# Altium integrated library Renesas Diode.IntLib: 1609 symbols (part 20 of 31)
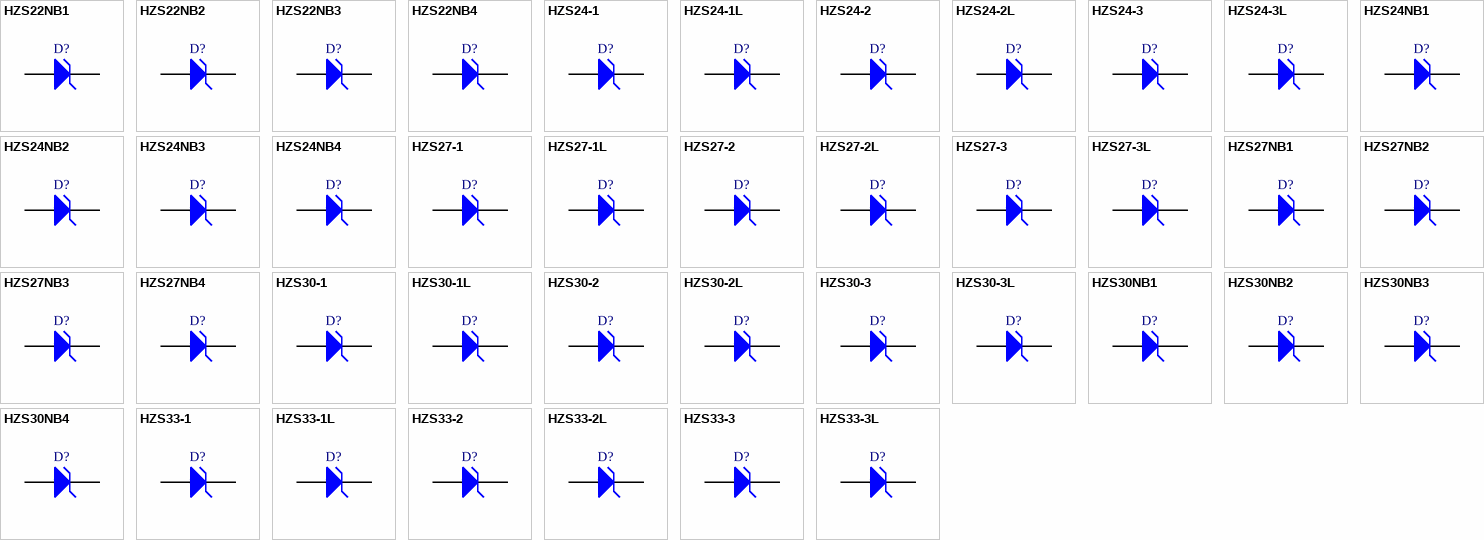
[diagram p64: symbols HZS22NB1 to HZS33-3L]

## HZS24-1L
designator D?
Silicon Epitaxial Planar Zener Diode for Low Noise Application; Published: 12-Feb-2010; DatasheetVersion: Rev.3.00, Nov-2007; PackageVersion: Jul-2006; PackageReference: GRZZ0002ZC-A; Publisher: Altium Limited; PackageDescription: Diode, Axial; Body 2.4 x 2.0 mm (LxDia.), Lead Dia. 0.4 mm (nom); ComponentLink1Description: Manufacturer Link; ComponentLink1URL: http://sg.renesas.com/fmwk.jsp?cnt=diode_landing.jsp&fp=/products/discrete/diodes/; ComponentLink2Description: Datasheet; ComponentLink2URL: http://documentation.renesas.com/eng/products/diode/rej03g0166_hzs_l.pdf; ComponentLink3Description: Packaging Specification; ComponentLink3URL: http://sg.renesas.com/media/products/common_info/package/pdf/diode/code/grzz0002zc_a.pdf
footprint GRZZ0002ZC-A (Diode, Axial; Body 2.4 x 2.2 mm (LxDia. max), Lead Dia. 0.4 mm (nom))
signal-integrity model HZS24-1L
pins: 1 K, 2 A

## HZS24-2
designator D?
Silicon Epitaxial Planar Zener Diode for Stabilized Power Supply; Published: 12-Feb-2010; DatasheetVersion: Rev.5.00, Oct-2007; PackageVersion: Jul-2006; PackageReference: GRZZ0002ZC-A; Publisher: Altium Limited; PackageDescription: Diode, Axial; Body 2.4 x 2.0 mm (LxDia.), Lead Dia. 0.4 mm (nom); ComponentLink1Description: Manufacturer Link; ComponentLink1URL: http://sg.renesas.com/fmwk.jsp?cnt=diode_landing.jsp&fp=/products/discrete/diodes/; ComponentLink2Description: Datasheet; ComponentLink2URL: http://documentation.renesas.com/eng/products/diode/rej03g0184_hzs.pdf; ComponentLink3Description: Packaging Specification; ComponentLink3URL: http://sg.renesas.com/media/products/common_info/package/pdf/diode/code/grzz0002zc_a.pdf
footprint GRZZ0002ZC-A (Diode, Axial; Body 2.4 x 2.2 mm (LxDia. max), Lead Dia. 0.4 mm (nom))
signal-integrity model HZS24-2
pins: 1 K, 2 A

## HZS24-2L
designator D?
Silicon Epitaxial Planar Zener Diode for Low Noise Application; Published: 12-Feb-2010; DatasheetVersion: Rev.3.00, Nov-2007; PackageVersion: Jul-2006; PackageReference: GRZZ0002ZC-A; Publisher: Altium Limited; PackageDescription: Diode, Axial; Body 2.4 x 2.0 mm (LxDia.), Lead Dia. 0.4 mm (nom); ComponentLink1Description: Manufacturer Link; ComponentLink1URL: http://sg.renesas.com/fmwk.jsp?cnt=diode_landing.jsp&fp=/products/discrete/diodes/; ComponentLink2Description: Datasheet; ComponentLink2URL: http://documentation.renesas.com/eng/products/diode/rej03g0166_hzs_l.pdf; ComponentLink3Description: Packaging Specification; ComponentLink3URL: http://sg.renesas.com/media/products/common_info/package/pdf/diode/code/grzz0002zc_a.pdf
footprint GRZZ0002ZC-A (Diode, Axial; Body 2.4 x 2.2 mm (LxDia. max), Lead Dia. 0.4 mm (nom))
signal-integrity model HZS24-2L
pins: 1 K, 2 A

## HZS24-3
designator D?
Silicon Epitaxial Planar Zener Diode for Stabilized Power Supply; Published: 12-Feb-2010; DatasheetVersion: Rev.5.00, Oct-2007; PackageVersion: Jul-2006; PackageReference: GRZZ0002ZC-A; Publisher: Altium Limited; PackageDescription: Diode, Axial; Body 2.4 x 2.0 mm (LxDia.), Lead Dia. 0.4 mm (nom); ComponentLink1Description: Manufacturer Link; ComponentLink1URL: http://sg.renesas.com/fmwk.jsp?cnt=diode_landing.jsp&fp=/products/discrete/diodes/; ComponentLink2Description: Datasheet; ComponentLink2URL: http://documentation.renesas.com/eng/products/diode/rej03g0184_hzs.pdf; ComponentLink3Description: Packaging Specification; ComponentLink3URL: http://sg.renesas.com/media/products/common_info/package/pdf/diode/code/grzz0002zc_a.pdf
footprint GRZZ0002ZC-A (Diode, Axial; Body 2.4 x 2.2 mm (LxDia. max), Lead Dia. 0.4 mm (nom))
signal-integrity model HZS24-3
pins: 1 K, 2 A

## HZS24-3L
designator D?
Silicon Epitaxial Planar Zener Diode for Low Noise Application; Published: 12-Feb-2010; DatasheetVersion: Rev.3.00, Nov-2007; PackageVersion: Jul-2006; PackageReference: GRZZ0002ZC-A; Publisher: Altium Limited; PackageDescription: Diode, Axial; Body 2.4 x 2.0 mm (LxDia.), Lead Dia. 0.4 mm (nom); ComponentLink1Description: Manufacturer Link; ComponentLink1URL: http://sg.renesas.com/fmwk.jsp?cnt=diode_landing.jsp&fp=/products/discrete/diodes/; ComponentLink2Description: Datasheet; ComponentLink2URL: http://documentation.renesas.com/eng/products/diode/rej03g0166_hzs_l.pdf; ComponentLink3Description: Packaging Specification; ComponentLink3URL: http://sg.renesas.com/media/products/common_info/package/pdf/diode/code/grzz0002zc_a.pdf
footprint GRZZ0002ZC-A (Diode, Axial; Body 2.4 x 2.2 mm (LxDia. max), Lead Dia. 0.4 mm (nom))
signal-integrity model HZS24-3L
pins: 1 K, 2 A

## HZS24NB1
designator D?
Silicon Epitaxial Planar Zener Diodes for Stabilized Power Supply; Published: 12-Feb-2010; DatasheetVersion: Rev.3.00, Nov-2007; PackageVersion: Jul-2006; PackageReference: GRZZ0002ZC-A; Publisher: Altium Limited; PackageDescription: Diode, Axial; Body 2.4 x 2.0 mm (LxDia.), Lead Dia. 0.4 mm (nom); ComponentLink1Description: Manufacturer Link; ComponentLink1URL: http://sg.renesas.com/fmwk.jsp?cnt=diode_landing.jsp&fp=/products/discrete/diodes/; ComponentLink2Description: Datasheet; ComponentLink2URL: http://documentation.renesas.com/eng/products/diode/rej03g0185_hzs_n.pdf; ComponentLink3Description: Packaging Specification; ComponentLink3URL: http://sg.renesas.com/media/products/common_info/package/pdf/diode/code/grzz0002zc_a.pdf
footprint GRZZ0002ZC-A (Diode, Axial; Body 2.4 x 2.2 mm (LxDia. max), Lead Dia. 0.4 mm (nom))
signal-integrity model HZS24NB1
pins: 1 K, 2 A

## HZS24NB2
designator D?
Silicon Epitaxial Planar Zener Diodes for Stabilized Power Supply; Published: 12-Feb-2010; DatasheetVersion: Rev.3.00, Nov-2007; PackageVersion: Jul-2006; PackageReference: GRZZ0002ZC-A; Publisher: Altium Limited; PackageDescription: Diode, Axial; Body 2.4 x 2.0 mm (LxDia.), Lead Dia. 0.4 mm (nom); ComponentLink1Description: Manufacturer Link; ComponentLink1URL: http://sg.renesas.com/fmwk.jsp?cnt=diode_landing.jsp&fp=/products/discrete/diodes/; ComponentLink2Description: Datasheet; ComponentLink2URL: http://documentation.renesas.com/eng/products/diode/rej03g0185_hzs_n.pdf; ComponentLink3Description: Packaging Specification; ComponentLink3URL: http://sg.renesas.com/media/products/common_info/package/pdf/diode/code/grzz0002zc_a.pdf
footprint GRZZ0002ZC-A (Diode, Axial; Body 2.4 x 2.2 mm (LxDia. max), Lead Dia. 0.4 mm (nom))
signal-integrity model HZS24NB2
pins: 1 K, 2 A

## HZS24NB3
designator D?
Silicon Epitaxial Planar Zener Diodes for Stabilized Power Supply; Published: 12-Feb-2010; DatasheetVersion: Rev.3.00, Nov-2007; PackageVersion: Jul-2006; PackageReference: GRZZ0002ZC-A; Publisher: Altium Limited; PackageDescription: Diode, Axial; Body 2.4 x 2.0 mm (LxDia.), Lead Dia. 0.4 mm (nom); ComponentLink1Description: Manufacturer Link; ComponentLink1URL: http://sg.renesas.com/fmwk.jsp?cnt=diode_landing.jsp&fp=/products/discrete/diodes/; ComponentLink2Description: Datasheet; ComponentLink2URL: http://documentation.renesas.com/eng/products/diode/rej03g0185_hzs_n.pdf; ComponentLink3Description: Packaging Specification; ComponentLink3URL: http://sg.renesas.com/media/products/common_info/package/pdf/diode/code/grzz0002zc_a.pdf
footprint GRZZ0002ZC-A (Diode, Axial; Body 2.4 x 2.2 mm (LxDia. max), Lead Dia. 0.4 mm (nom))
signal-integrity model HZS24NB3
pins: 1 K, 2 A

## HZS24NB4
designator D?
Silicon Epitaxial Planar Zener Diodes for Stabilized Power Supply; Published: 12-Feb-2010; DatasheetVersion: Rev.3.00, Nov-2007; PackageVersion: Jul-2006; PackageReference: GRZZ0002ZC-A; Publisher: Altium Limited; PackageDescription: Diode, Axial; Body 2.4 x 2.0 mm (LxDia.), Lead Dia. 0.4 mm (nom); ComponentLink1Description: Manufacturer Link; ComponentLink1URL: http://sg.renesas.com/fmwk.jsp?cnt=diode_landing.jsp&fp=/products/discrete/diodes/; ComponentLink2Description: Datasheet; ComponentLink2URL: http://documentation.renesas.com/eng/products/diode/rej03g0185_hzs_n.pdf; ComponentLink3Description: Packaging Specification; ComponentLink3URL: http://sg.renesas.com/media/products/common_info/package/pdf/diode/code/grzz0002zc_a.pdf
footprint GRZZ0002ZC-A (Diode, Axial; Body 2.4 x 2.2 mm (LxDia. max), Lead Dia. 0.4 mm (nom))
signal-integrity model HZS24NB4
pins: 1 K, 2 A

## HZS27-1
designator D?
Silicon Epitaxial Planar Zener Diode for Stabilized Power Supply; Published: 12-Feb-2010; DatasheetVersion: Rev.5.00, Oct-2007; PackageVersion: Jul-2006; PackageReference: GRZZ0002ZC-A; Publisher: Altium Limited; PackageDescription: Diode, Axial; Body 2.4 x 2.0 mm (LxDia.), Lead Dia. 0.4 mm (nom); ComponentLink1Description: Manufacturer Link; ComponentLink1URL: http://sg.renesas.com/fmwk.jsp?cnt=diode_landing.jsp&fp=/products/discrete/diodes/; ComponentLink2Description: Datasheet; ComponentLink2URL: http://documentation.renesas.com/eng/products/diode/rej03g0184_hzs.pdf; ComponentLink3Description: Packaging Specification; ComponentLink3URL: http://sg.renesas.com/media/products/common_info/package/pdf/diode/code/grzz0002zc_a.pdf
footprint GRZZ0002ZC-A (Diode, Axial; Body 2.4 x 2.2 mm (LxDia. max), Lead Dia. 0.4 mm (nom))
signal-integrity model HZS27-1
pins: 1 K, 2 A

## HZS27-1L
designator D?
Silicon Epitaxial Planar Zener Diode for Low Noise Application; Published: 12-Feb-2010; DatasheetVersion: Rev.3.00, Nov-2007; PackageVersion: Jul-2006; PackageReference: GRZZ0002ZC-A; Publisher: Altium Limited; PackageDescription: Diode, Axial; Body 2.4 x 2.0 mm (LxDia.), Lead Dia. 0.4 mm (nom); ComponentLink1Description: Manufacturer Link; ComponentLink1URL: http://sg.renesas.com/fmwk.jsp?cnt=diode_landing.jsp&fp=/products/discrete/diodes/; ComponentLink2Description: Datasheet; ComponentLink2URL: http://documentation.renesas.com/eng/products/diode/rej03g0166_hzs_l.pdf; ComponentLink3Description: Packaging Specification; ComponentLink3URL: http://sg.renesas.com/media/products/common_info/package/pdf/diode/code/grzz0002zc_a.pdf
footprint GRZZ0002ZC-A (Diode, Axial; Body 2.4 x 2.2 mm (LxDia. max), Lead Dia. 0.4 mm (nom))
signal-integrity model HZS27-1L
pins: 1 K, 2 A

## HZS27-2
designator D?
Silicon Epitaxial Planar Zener Diode for Stabilized Power Supply; Published: 12-Feb-2010; DatasheetVersion: Rev.5.00, Oct-2007; PackageVersion: Jul-2006; PackageReference: GRZZ0002ZC-A; Publisher: Altium Limited; PackageDescription: Diode, Axial; Body 2.4 x 2.0 mm (LxDia.), Lead Dia. 0.4 mm (nom); ComponentLink1Description: Manufacturer Link; ComponentLink1URL: http://sg.renesas.com/fmwk.jsp?cnt=diode_landing.jsp&fp=/products/discrete/diodes/; ComponentLink2Description: Datasheet; ComponentLink2URL: http://documentation.renesas.com/eng/products/diode/rej03g0184_hzs.pdf; ComponentLink3Description: Packaging Specification; ComponentLink3URL: http://sg.renesas.com/media/products/common_info/package/pdf/diode/code/grzz0002zc_a.pdf
footprint GRZZ0002ZC-A (Diode, Axial; Body 2.4 x 2.2 mm (LxDia. max), Lead Dia. 0.4 mm (nom))
signal-integrity model HZS27-2
pins: 1 K, 2 A

## HZS27-2L
designator D?
Silicon Epitaxial Planar Zener Diode for Low Noise Application; Published: 12-Feb-2010; DatasheetVersion: Rev.3.00, Nov-2007; PackageVersion: Jul-2006; PackageReference: GRZZ0002ZC-A; Publisher: Altium Limited; PackageDescription: Diode, Axial; Body 2.4 x 2.0 mm (LxDia.), Lead Dia. 0.4 mm (nom); ComponentLink1Description: Manufacturer Link; ComponentLink1URL: http://sg.renesas.com/fmwk.jsp?cnt=diode_landing.jsp&fp=/products/discrete/diodes/; ComponentLink2Description: Datasheet; ComponentLink2URL: http://documentation.renesas.com/eng/products/diode/rej03g0166_hzs_l.pdf; ComponentLink3Description: Packaging Specification; ComponentLink3URL: http://sg.renesas.com/media/products/common_info/package/pdf/diode/code/grzz0002zc_a.pdf
footprint GRZZ0002ZC-A (Diode, Axial; Body 2.4 x 2.2 mm (LxDia. max), Lead Dia. 0.4 mm (nom))
signal-integrity model HZS27-2L
pins: 1 K, 2 A

## HZS27-3
designator D?
Silicon Epitaxial Planar Zener Diode for Stabilized Power Supply; Published: 12-Feb-2010; DatasheetVersion: Rev.5.00, Oct-2007; PackageVersion: Jul-2006; PackageReference: GRZZ0002ZC-A; Publisher: Altium Limited; PackageDescription: Diode, Axial; Body 2.4 x 2.0 mm (LxDia.), Lead Dia. 0.4 mm (nom); ComponentLink1Description: Manufacturer Link; ComponentLink1URL: http://sg.renesas.com/fmwk.jsp?cnt=diode_landing.jsp&fp=/products/discrete/diodes/; ComponentLink2Description: Datasheet; ComponentLink2URL: http://documentation.renesas.com/eng/products/diode/rej03g0184_hzs.pdf; ComponentLink3Description: Packaging Specification; ComponentLink3URL: http://sg.renesas.com/media/products/common_info/package/pdf/diode/code/grzz0002zc_a.pdf
footprint GRZZ0002ZC-A (Diode, Axial; Body 2.4 x 2.2 mm (LxDia. max), Lead Dia. 0.4 mm (nom))
signal-integrity model HZS27-3
pins: 1 K, 2 A

## HZS27-3L
designator D?
Silicon Epitaxial Planar Zener Diode for Low Noise Application; Published: 12-Feb-2010; DatasheetVersion: Rev.3.00, Nov-2007; PackageVersion: Jul-2006; PackageReference: GRZZ0002ZC-A; Publisher: Altium Limited; PackageDescription: Diode, Axial; Body 2.4 x 2.0 mm (LxDia.), Lead Dia. 0.4 mm (nom); ComponentLink1Description: Manufacturer Link; ComponentLink1URL: http://sg.renesas.com/fmwk.jsp?cnt=diode_landing.jsp&fp=/products/discrete/diodes/; ComponentLink2Description: Datasheet; ComponentLink2URL: http://documentation.renesas.com/eng/products/diode/rej03g0166_hzs_l.pdf; ComponentLink3Description: Packaging Specification; ComponentLink3URL: http://sg.renesas.com/media/products/common_info/package/pdf/diode/code/grzz0002zc_a.pdf
footprint GRZZ0002ZC-A (Diode, Axial; Body 2.4 x 2.2 mm (LxDia. max), Lead Dia. 0.4 mm (nom))
signal-integrity model HZS27-3L
pins: 1 K, 2 A

## HZS27NB1
designator D?
Silicon Epitaxial Planar Zener Diodes for Stabilized Power Supply; Published: 12-Feb-2010; DatasheetVersion: Rev.3.00, Nov-2007; PackageVersion: Jul-2006; PackageReference: GRZZ0002ZC-A; Publisher: Altium Limited; PackageDescription: Diode, Axial; Body 2.4 x 2.0 mm (LxDia.), Lead Dia. 0.4 mm (nom); ComponentLink1Description: Manufacturer Link; ComponentLink1URL: http://sg.renesas.com/fmwk.jsp?cnt=diode_landing.jsp&fp=/products/discrete/diodes/; ComponentLink2Description: Datasheet; ComponentLink2URL: http://documentation.renesas.com/eng/products/diode/rej03g0185_hzs_n.pdf; ComponentLink3Description: Packaging Specification; ComponentLink3URL: http://sg.renesas.com/media/products/common_info/package/pdf/diode/code/grzz0002zc_a.pdf
footprint GRZZ0002ZC-A (Diode, Axial; Body 2.4 x 2.2 mm (LxDia. max), Lead Dia. 0.4 mm (nom))
signal-integrity model HZS27NB1
pins: 1 K, 2 A

## HZS27NB2
designator D?
Silicon Epitaxial Planar Zener Diodes for Stabilized Power Supply; Published: 12-Feb-2010; DatasheetVersion: Rev.3.00, Nov-2007; PackageVersion: Jul-2006; PackageReference: GRZZ0002ZC-A; Publisher: Altium Limited; PackageDescription: Diode, Axial; Body 2.4 x 2.0 mm (LxDia.), Lead Dia. 0.4 mm (nom); ComponentLink1Description: Manufacturer Link; ComponentLink1URL: http://sg.renesas.com/fmwk.jsp?cnt=diode_landing.jsp&fp=/products/discrete/diodes/; ComponentLink2Description: Datasheet; ComponentLink2URL: http://documentation.renesas.com/eng/products/diode/rej03g0185_hzs_n.pdf; ComponentLink3Description: Packaging Specification; ComponentLink3URL: http://sg.renesas.com/media/products/common_info/package/pdf/diode/code/grzz0002zc_a.pdf
footprint GRZZ0002ZC-A (Diode, Axial; Body 2.4 x 2.2 mm (LxDia. max), Lead Dia. 0.4 mm (nom))
signal-integrity model HZS27NB2
pins: 1 K, 2 A

## HZS27NB3
designator D?
Silicon Epitaxial Planar Zener Diodes for Stabilized Power Supply; Published: 12-Feb-2010; DatasheetVersion: Rev.3.00, Nov-2007; PackageVersion: Jul-2006; PackageReference: GRZZ0002ZC-A; Publisher: Altium Limited; PackageDescription: Diode, Axial; Body 2.4 x 2.0 mm (LxDia.), Lead Dia. 0.4 mm (nom); ComponentLink1Description: Manufacturer Link; ComponentLink1URL: http://sg.renesas.com/fmwk.jsp?cnt=diode_landing.jsp&fp=/products/discrete/diodes/; ComponentLink2Description: Datasheet; ComponentLink2URL: http://documentation.renesas.com/eng/products/diode/rej03g0185_hzs_n.pdf; ComponentLink3Description: Packaging Specification; ComponentLink3URL: http://sg.renesas.com/media/products/common_info/package/pdf/diode/code/grzz0002zc_a.pdf
footprint GRZZ0002ZC-A (Diode, Axial; Body 2.4 x 2.2 mm (LxDia. max), Lead Dia. 0.4 mm (nom))
signal-integrity model HZS27NB3
pins: 1 K, 2 A

## HZS27NB4
designator D?
Silicon Epitaxial Planar Zener Diodes for Stabilized Power Supply; Published: 12-Feb-2010; DatasheetVersion: Rev.3.00, Nov-2007; PackageVersion: Jul-2006; PackageReference: GRZZ0002ZC-A; Publisher: Altium Limited; PackageDescription: Diode, Axial; Body 2.4 x 2.0 mm (LxDia.), Lead Dia. 0.4 mm (nom); ComponentLink1Description: Manufacturer Link; ComponentLink1URL: http://sg.renesas.com/fmwk.jsp?cnt=diode_landing.jsp&fp=/products/discrete/diodes/; ComponentLink2Description: Datasheet; ComponentLink2URL: http://documentation.renesas.com/eng/products/diode/rej03g0185_hzs_n.pdf; ComponentLink3Description: Packaging Specification; ComponentLink3URL: http://sg.renesas.com/media/products/common_info/package/pdf/diode/code/grzz0002zc_a.pdf
footprint GRZZ0002ZC-A (Diode, Axial; Body 2.4 x 2.2 mm (LxDia. max), Lead Dia. 0.4 mm (nom))
signal-integrity model HZS27NB4
pins: 1 K, 2 A

## HZS30-1
designator D?
Silicon Epitaxial Planar Zener Diode for Stabilized Power Supply; Published: 12-Feb-2010; DatasheetVersion: Rev.5.00, Oct-2007; PackageVersion: Jul-2006; PackageReference: GRZZ0002ZC-A; Publisher: Altium Limited; PackageDescription: Diode, Axial; Body 2.4 x 2.0 mm (LxDia.), Lead Dia. 0.4 mm (nom); ComponentLink1Description: Manufacturer Link; ComponentLink1URL: http://sg.renesas.com/fmwk.jsp?cnt=diode_landing.jsp&fp=/products/discrete/diodes/; ComponentLink2Description: Datasheet; ComponentLink2URL: http://documentation.renesas.com/eng/products/diode/rej03g0184_hzs.pdf; ComponentLink3Description: Packaging Specification; ComponentLink3URL: http://sg.renesas.com/media/products/common_info/package/pdf/diode/code/grzz0002zc_a.pdf
footprint GRZZ0002ZC-A (Diode, Axial; Body 2.4 x 2.2 mm (LxDia. max), Lead Dia. 0.4 mm (nom))
signal-integrity model HZS30-1
pins: 1 K, 2 A

## HZS30-1L
designator D?
Silicon Epitaxial Planar Zener Diode for Low Noise Application; Published: 12-Feb-2010; DatasheetVersion: Rev.3.00, Nov-2007; PackageVersion: Jul-2006; PackageReference: GRZZ0002ZC-A; Publisher: Altium Limited; PackageDescription: Diode, Axial; Body 2.4 x 2.0 mm (LxDia.), Lead Dia. 0.4 mm (nom); ComponentLink1Description: Manufacturer Link; ComponentLink1URL: http://sg.renesas.com/fmwk.jsp?cnt=diode_landing.jsp&fp=/products/discrete/diodes/; ComponentLink2Description: Datasheet; ComponentLink2URL: http://documentation.renesas.com/eng/products/diode/rej03g0166_hzs_l.pdf; ComponentLink3Description: Packaging Specification; ComponentLink3URL: http://sg.renesas.com/media/products/common_info/package/pdf/diode/code/grzz0002zc_a.pdf
footprint GRZZ0002ZC-A (Diode, Axial; Body 2.4 x 2.2 mm (LxDia. max), Lead Dia. 0.4 mm (nom))
signal-integrity model HZS30-1L
pins: 1 K, 2 A

## HZS30-2
designator D?
Silicon Epitaxial Planar Zener Diode for Stabilized Power Supply; Published: 12-Feb-2010; DatasheetVersion: Rev.5.00, Oct-2007; PackageVersion: Jul-2006; PackageReference: GRZZ0002ZC-A; Publisher: Altium Limited; PackageDescription: Diode, Axial; Body 2.4 x 2.0 mm (LxDia.), Lead Dia. 0.4 mm (nom); ComponentLink1Description: Manufacturer Link; ComponentLink1URL: http://sg.renesas.com/fmwk.jsp?cnt=diode_landing.jsp&fp=/products/discrete/diodes/; ComponentLink2Description: Datasheet; ComponentLink2URL: http://documentation.renesas.com/eng/products/diode/rej03g0184_hzs.pdf; ComponentLink3Description: Packaging Specification; ComponentLink3URL: http://sg.renesas.com/media/products/common_info/package/pdf/diode/code/grzz0002zc_a.pdf
footprint GRZZ0002ZC-A (Diode, Axial; Body 2.4 x 2.2 mm (LxDia. max), Lead Dia. 0.4 mm (nom))
signal-integrity model HZS30-2
pins: 1 K, 2 A

## HZS30-2L
designator D?
Silicon Epitaxial Planar Zener Diode for Low Noise Application; Published: 12-Feb-2010; DatasheetVersion: Rev.3.00, Nov-2007; PackageVersion: Jul-2006; PackageReference: GRZZ0002ZC-A; Publisher: Altium Limited; PackageDescription: Diode, Axial; Body 2.4 x 2.0 mm (LxDia.), Lead Dia. 0.4 mm (nom); ComponentLink1Description: Manufacturer Link; ComponentLink1URL: http://sg.renesas.com/fmwk.jsp?cnt=diode_landing.jsp&fp=/products/discrete/diodes/; ComponentLink2Description: Datasheet; ComponentLink2URL: http://documentation.renesas.com/eng/products/diode/rej03g0166_hzs_l.pdf; ComponentLink3Description: Packaging Specification; ComponentLink3URL: http://sg.renesas.com/media/products/common_info/package/pdf/diode/code/grzz0002zc_a.pdf
footprint GRZZ0002ZC-A (Diode, Axial; Body 2.4 x 2.2 mm (LxDia. max), Lead Dia. 0.4 mm (nom))
signal-integrity model HZS30-2L
pins: 1 K, 2 A

## HZS30-3
designator D?
Silicon Epitaxial Planar Zener Diode for Stabilized Power Supply; Published: 12-Feb-2010; DatasheetVersion: Rev.5.00, Oct-2007; PackageVersion: Jul-2006; PackageReference: GRZZ0002ZC-A; Publisher: Altium Limited; PackageDescription: Diode, Axial; Body 2.4 x 2.0 mm (LxDia.), Lead Dia. 0.4 mm (nom); ComponentLink1Description: Manufacturer Link; ComponentLink1URL: http://sg.renesas.com/fmwk.jsp?cnt=diode_landing.jsp&fp=/products/discrete/diodes/; ComponentLink2Description: Datasheet; ComponentLink2URL: http://documentation.renesas.com/eng/products/diode/rej03g0184_hzs.pdf; ComponentLink3Description: Packaging Specification; ComponentLink3URL: http://sg.renesas.com/media/products/common_info/package/pdf/diode/code/grzz0002zc_a.pdf
footprint GRZZ0002ZC-A (Diode, Axial; Body 2.4 x 2.2 mm (LxDia. max), Lead Dia. 0.4 mm (nom))
signal-integrity model HZS30-3
pins: 1 K, 2 A

## HZS30-3L
designator D?
Silicon Epitaxial Planar Zener Diode for Low Noise Application; Published: 12-Feb-2010; DatasheetVersion: Rev.3.00, Nov-2007; PackageVersion: Jul-2006; PackageReference: GRZZ0002ZC-A; Publisher: Altium Limited; PackageDescription: Diode, Axial; Body 2.4 x 2.0 mm (LxDia.), Lead Dia. 0.4 mm (nom); ComponentLink1Description: Manufacturer Link; ComponentLink1URL: http://sg.renesas.com/fmwk.jsp?cnt=diode_landing.jsp&fp=/products/discrete/diodes/; ComponentLink2Description: Datasheet; ComponentLink2URL: http://documentation.renesas.com/eng/products/diode/rej03g0166_hzs_l.pdf; ComponentLink3Description: Packaging Specification; ComponentLink3URL: http://sg.renesas.com/media/products/common_info/package/pdf/diode/code/grzz0002zc_a.pdf
footprint GRZZ0002ZC-A (Diode, Axial; Body 2.4 x 2.2 mm (LxDia. max), Lead Dia. 0.4 mm (nom))
signal-integrity model HZS30-3L
pins: 1 K, 2 A

## HZS30NB1
designator D?
Silicon Epitaxial Planar Zener Diodes for Stabilized Power Supply; Published: 12-Feb-2010; DatasheetVersion: Rev.3.00, Nov-2007; PackageVersion: Jul-2006; PackageReference: GRZZ0002ZC-A; Publisher: Altium Limited; PackageDescription: Diode, Axial; Body 2.4 x 2.0 mm (LxDia.), Lead Dia. 0.4 mm (nom); ComponentLink1Description: Manufacturer Link; ComponentLink1URL: http://sg.renesas.com/fmwk.jsp?cnt=diode_landing.jsp&fp=/products/discrete/diodes/; ComponentLink2Description: Datasheet; ComponentLink2URL: http://documentation.renesas.com/eng/products/diode/rej03g0185_hzs_n.pdf; ComponentLink3Description: Packaging Specification; ComponentLink3URL: http://sg.renesas.com/media/products/common_info/package/pdf/diode/code/grzz0002zc_a.pdf
footprint GRZZ0002ZC-A (Diode, Axial; Body 2.4 x 2.2 mm (LxDia. max), Lead Dia. 0.4 mm (nom))
signal-integrity model HZS30NB1
pins: 1 K, 2 A

## HZS30NB2
designator D?
Silicon Epitaxial Planar Zener Diodes for Stabilized Power Supply; Published: 12-Feb-2010; DatasheetVersion: Rev.3.00, Nov-2007; PackageVersion: Jul-2006; PackageReference: GRZZ0002ZC-A; Publisher: Altium Limited; PackageDescription: Diode, Axial; Body 2.4 x 2.0 mm (LxDia.), Lead Dia. 0.4 mm (nom); ComponentLink1Description: Manufacturer Link; ComponentLink1URL: http://sg.renesas.com/fmwk.jsp?cnt=diode_landing.jsp&fp=/products/discrete/diodes/; ComponentLink2Description: Datasheet; ComponentLink2URL: http://documentation.renesas.com/eng/products/diode/rej03g0185_hzs_n.pdf; ComponentLink3Description: Packaging Specification; ComponentLink3URL: http://sg.renesas.com/media/products/common_info/package/pdf/diode/code/grzz0002zc_a.pdf
footprint GRZZ0002ZC-A (Diode, Axial; Body 2.4 x 2.2 mm (LxDia. max), Lead Dia. 0.4 mm (nom))
signal-integrity model HZS30NB2
pins: 1 K, 2 A

## HZS30NB3
designator D?
Silicon Epitaxial Planar Zener Diodes for Stabilized Power Supply; Published: 12-Feb-2010; DatasheetVersion: Rev.3.00, Nov-2007; PackageVersion: Jul-2006; PackageReference: GRZZ0002ZC-A; Publisher: Altium Limited; PackageDescription: Diode, Axial; Body 2.4 x 2.0 mm (LxDia.), Lead Dia. 0.4 mm (nom); ComponentLink1Description: Manufacturer Link; ComponentLink1URL: http://sg.renesas.com/fmwk.jsp?cnt=diode_landing.jsp&fp=/products/discrete/diodes/; ComponentLink2Description: Datasheet; ComponentLink2URL: http://documentation.renesas.com/eng/products/diode/rej03g0185_hzs_n.pdf; ComponentLink3Description: Packaging Specification; ComponentLink3URL: http://sg.renesas.com/media/products/common_info/package/pdf/diode/code/grzz0002zc_a.pdf
footprint GRZZ0002ZC-A (Diode, Axial; Body 2.4 x 2.2 mm (LxDia. max), Lead Dia. 0.4 mm (nom))
signal-integrity model HZS30NB3
pins: 1 K, 2 A

## HZS30NB4
designator D?
Silicon Epitaxial Planar Zener Diodes for Stabilized Power Supply; Published: 12-Feb-2010; DatasheetVersion: Rev.3.00, Nov-2007; PackageVersion: Jul-2006; PackageReference: GRZZ0002ZC-A; Publisher: Altium Limited; PackageDescription: Diode, Axial; Body 2.4 x 2.0 mm (LxDia.), Lead Dia. 0.4 mm (nom); ComponentLink1Description: Manufacturer Link; ComponentLink1URL: http://sg.renesas.com/fmwk.jsp?cnt=diode_landing.jsp&fp=/products/discrete/diodes/; ComponentLink2Description: Datasheet; ComponentLink2URL: http://documentation.renesas.com/eng/products/diode/rej03g0185_hzs_n.pdf; ComponentLink3Description: Packaging Specification; ComponentLink3URL: http://sg.renesas.com/media/products/common_info/package/pdf/diode/code/grzz0002zc_a.pdf
footprint GRZZ0002ZC-A (Diode, Axial; Body 2.4 x 2.2 mm (LxDia. max), Lead Dia. 0.4 mm (nom))
signal-integrity model HZS30NB4
pins: 1 K, 2 A

## HZS33-1
designator D?
Silicon Epitaxial Planar Zener Diode for Stabilized Power Supply; Published: 12-Feb-2010; DatasheetVersion: Rev.5.00, Oct-2007; PackageVersion: Jul-2006; PackageReference: GRZZ0002ZC-A; Publisher: Altium Limited; PackageDescription: Diode, Axial; Body 2.4 x 2.0 mm (LxDia.), Lead Dia. 0.4 mm (nom); ComponentLink1Description: Manufacturer Link; ComponentLink1URL: http://sg.renesas.com/fmwk.jsp?cnt=diode_landing.jsp&fp=/products/discrete/diodes/; ComponentLink2Description: Datasheet; ComponentLink2URL: http://documentation.renesas.com/eng/products/diode/rej03g0184_hzs.pdf; ComponentLink3Description: Packaging Specification; ComponentLink3URL: http://sg.renesas.com/media/products/common_info/package/pdf/diode/code/grzz0002zc_a.pdf
footprint GRZZ0002ZC-A (Diode, Axial; Body 2.4 x 2.2 mm (LxDia. max), Lead Dia. 0.4 mm (nom))
signal-integrity model HZS33-1
pins: 1 K, 2 A

## HZS33-1L
designator D?
Silicon Epitaxial Planar Zener Diode for Low Noise Application; Published: 12-Feb-2010; DatasheetVersion: Rev.3.00, Nov-2007; PackageVersion: Jul-2006; PackageReference: GRZZ0002ZC-A; Publisher: Altium Limited; PackageDescription: Diode, Axial; Body 2.4 x 2.0 mm (LxDia.), Lead Dia. 0.4 mm (nom); ComponentLink1Description: Manufacturer Link; ComponentLink1URL: http://sg.renesas.com/fmwk.jsp?cnt=diode_landing.jsp&fp=/products/discrete/diodes/; ComponentLink2Description: Datasheet; ComponentLink2URL: http://documentation.renesas.com/eng/products/diode/rej03g0166_hzs_l.pdf; ComponentLink3Description: Packaging Specification; ComponentLink3URL: http://sg.renesas.com/media/products/common_info/package/pdf/diode/code/grzz0002zc_a.pdf
footprint GRZZ0002ZC-A (Diode, Axial; Body 2.4 x 2.2 mm (LxDia. max), Lead Dia. 0.4 mm (nom))
signal-integrity model HZS33-1L
pins: 1 K, 2 A

## HZS33-2
designator D?
Silicon Epitaxial Planar Zener Diode for Stabilized Power Supply; Published: 12-Feb-2010; DatasheetVersion: Rev.5.00, Oct-2007; PackageVersion: Jul-2006; PackageReference: GRZZ0002ZC-A; Publisher: Altium Limited; PackageDescription: Diode, Axial; Body 2.4 x 2.0 mm (LxDia.), Lead Dia. 0.4 mm (nom); ComponentLink1Description: Manufacturer Link; ComponentLink1URL: http://sg.renesas.com/fmwk.jsp?cnt=diode_landing.jsp&fp=/products/discrete/diodes/; ComponentLink2Description: Datasheet; ComponentLink2URL: http://documentation.renesas.com/eng/products/diode/rej03g0184_hzs.pdf; ComponentLink3Description: Packaging Specification; ComponentLink3URL: http://sg.renesas.com/media/products/common_info/package/pdf/diode/code/grzz0002zc_a.pdf
footprint GRZZ0002ZC-A (Diode, Axial; Body 2.4 x 2.2 mm (LxDia. max), Lead Dia. 0.4 mm (nom))
signal-integrity model HZS33-2
pins: 1 K, 2 A

## HZS33-2L
designator D?
Silicon Epitaxial Planar Zener Diode for Low Noise Application; Published: 12-Feb-2010; DatasheetVersion: Rev.3.00, Nov-2007; PackageVersion: Jul-2006; PackageReference: GRZZ0002ZC-A; Publisher: Altium Limited; PackageDescription: Diode, Axial; Body 2.4 x 2.0 mm (LxDia.), Lead Dia. 0.4 mm (nom); ComponentLink1Description: Manufacturer Link; ComponentLink1URL: http://sg.renesas.com/fmwk.jsp?cnt=diode_landing.jsp&fp=/products/discrete/diodes/; ComponentLink2Description: Datasheet; ComponentLink2URL: http://documentation.renesas.com/eng/products/diode/rej03g0166_hzs_l.pdf; ComponentLink3Description: Packaging Specification; ComponentLink3URL: http://sg.renesas.com/media/products/common_info/package/pdf/diode/code/grzz0002zc_a.pdf
footprint GRZZ0002ZC-A (Diode, Axial; Body 2.4 x 2.2 mm (LxDia. max), Lead Dia. 0.4 mm (nom))
signal-integrity model HZS33-2L
pins: 1 K, 2 A

## HZS33-3
designator D?
Silicon Epitaxial Planar Zener Diode for Stabilized Power Supply; Published: 12-Feb-2010; DatasheetVersion: Rev.5.00, Oct-2007; PackageVersion: Jul-2006; PackageReference: GRZZ0002ZC-A; Publisher: Altium Limited; PackageDescription: Diode, Axial; Body 2.4 x 2.0 mm (LxDia.), Lead Dia. 0.4 mm (nom); ComponentLink1Description: Manufacturer Link; ComponentLink1URL: http://sg.renesas.com/fmwk.jsp?cnt=diode_landing.jsp&fp=/products/discrete/diodes/; ComponentLink2Description: Datasheet; ComponentLink2URL: http://documentation.renesas.com/eng/products/diode/rej03g0184_hzs.pdf; ComponentLink3Description: Packaging Specification; ComponentLink3URL: http://sg.renesas.com/media/products/common_info/package/pdf/diode/code/grzz0002zc_a.pdf
footprint GRZZ0002ZC-A (Diode, Axial; Body 2.4 x 2.2 mm (LxDia. max), Lead Dia. 0.4 mm (nom))
signal-integrity model HZS33-3
pins: 1 K, 2 A

## HZS33-3L
designator D?
Silicon Epitaxial Planar Zener Diode for Low Noise Application; Published: 12-Feb-2010; DatasheetVersion: Rev.3.00, Nov-2007; PackageVersion: Jul-2006; PackageReference: GRZZ0002ZC-A; Publisher: Altium Limited; PackageDescription: Diode, Axial; Body 2.4 x 2.0 mm (LxDia.), Lead Dia. 0.4 mm (nom); ComponentLink1Description: Manufacturer Link; ComponentLink1URL: http://sg.renesas.com/fmwk.jsp?cnt=diode_landing.jsp&fp=/products/discrete/diodes/; ComponentLink2Description: Datasheet; ComponentLink2URL: http://documentation.renesas.com/eng/products/diode/rej03g0166_hzs_l.pdf; ComponentLink3Description: Packaging Specification; ComponentLink3URL: http://sg.renesas.com/media/products/common_info/package/pdf/diode/code/grzz0002zc_a.pdf
footprint GRZZ0002ZC-A (Diode, Axial; Body 2.4 x 2.2 mm (LxDia. max), Lead Dia. 0.4 mm (nom))
signal-integrity model HZS33-3L
pins: 1 K, 2 A

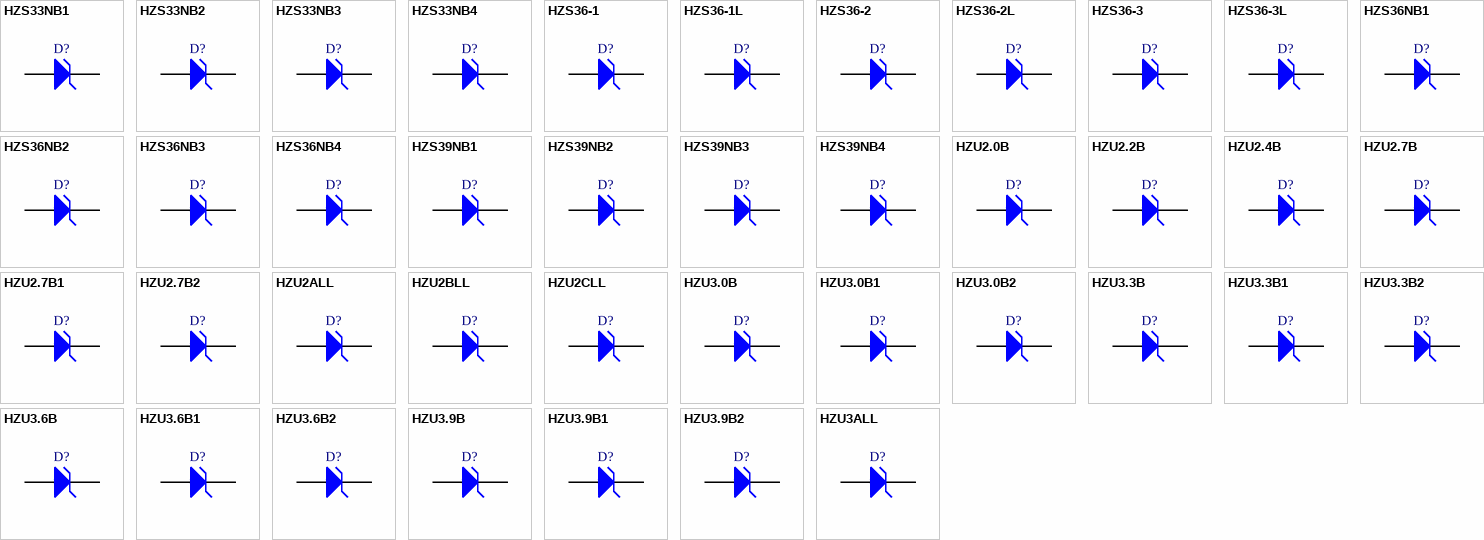
[diagram p28: symbols HZS33NB1 to HZU3ALL]

## HZS33NB1
designator D?
Silicon Epitaxial Planar Zener Diodes for Stabilized Power Supply; Published: 12-Feb-2010; DatasheetVersion: Rev.3.00, Nov-2007; PackageVersion: Jul-2006; PackageReference: GRZZ0002ZC-A; Publisher: Altium Limited; PackageDescription: Diode, Axial; Body 2.4 x 2.0 mm (LxDia.), Lead Dia. 0.4 mm (nom); ComponentLink1Description: Manufacturer Link; ComponentLink1URL: http://sg.renesas.com/fmwk.jsp?cnt=diode_landing.jsp&fp=/products/discrete/diodes/; ComponentLink2Description: Datasheet; ComponentLink2URL: http://documentation.renesas.com/eng/products/diode/rej03g0185_hzs_n.pdf; ComponentLink3Description: Packaging Specification; ComponentLink3URL: http://sg.renesas.com/media/products/common_info/package/pdf/diode/code/grzz0002zc_a.pdf
footprint GRZZ0002ZC-A (Diode, Axial; Body 2.4 x 2.2 mm (LxDia. max), Lead Dia. 0.4 mm (nom))
signal-integrity model HZS33NB1
pins: 1 K, 2 A

## HZS33NB2
designator D?
Silicon Epitaxial Planar Zener Diodes for Stabilized Power Supply; Published: 12-Feb-2010; DatasheetVersion: Rev.3.00, Nov-2007; PackageVersion: Jul-2006; PackageReference: GRZZ0002ZC-A; Publisher: Altium Limited; PackageDescription: Diode, Axial; Body 2.4 x 2.0 mm (LxDia.), Lead Dia. 0.4 mm (nom); ComponentLink1Description: Manufacturer Link; ComponentLink1URL: http://sg.renesas.com/fmwk.jsp?cnt=diode_landing.jsp&fp=/products/discrete/diodes/; ComponentLink2Description: Datasheet; ComponentLink2URL: http://documentation.renesas.com/eng/products/diode/rej03g0185_hzs_n.pdf; ComponentLink3Description: Packaging Specification; ComponentLink3URL: http://sg.renesas.com/media/products/common_info/package/pdf/diode/code/grzz0002zc_a.pdf
footprint GRZZ0002ZC-A (Diode, Axial; Body 2.4 x 2.2 mm (LxDia. max), Lead Dia. 0.4 mm (nom))
signal-integrity model HZS33NB2
pins: 1 K, 2 A

## HZS33NB3
designator D?
Silicon Epitaxial Planar Zener Diodes for Stabilized Power Supply; Published: 12-Feb-2010; DatasheetVersion: Rev.3.00, Nov-2007; PackageVersion: Jul-2006; PackageReference: GRZZ0002ZC-A; Publisher: Altium Limited; PackageDescription: Diode, Axial; Body 2.4 x 2.0 mm (LxDia.), Lead Dia. 0.4 mm (nom); ComponentLink1Description: Manufacturer Link; ComponentLink1URL: http://sg.renesas.com/fmwk.jsp?cnt=diode_landing.jsp&fp=/products/discrete/diodes/; ComponentLink2Description: Datasheet; ComponentLink2URL: http://documentation.renesas.com/eng/products/diode/rej03g0185_hzs_n.pdf; ComponentLink3Description: Packaging Specification; ComponentLink3URL: http://sg.renesas.com/media/products/common_info/package/pdf/diode/code/grzz0002zc_a.pdf
footprint GRZZ0002ZC-A (Diode, Axial; Body 2.4 x 2.2 mm (LxDia. max), Lead Dia. 0.4 mm (nom))
signal-integrity model HZS33NB3
pins: 1 K, 2 A

## HZS33NB4
designator D?
Silicon Epitaxial Planar Zener Diodes for Stabilized Power Supply; Published: 12-Feb-2010; DatasheetVersion: Rev.3.00, Nov-2007; PackageVersion: Jul-2006; PackageReference: GRZZ0002ZC-A; Publisher: Altium Limited; PackageDescription: Diode, Axial; Body 2.4 x 2.0 mm (LxDia.), Lead Dia. 0.4 mm (nom); ComponentLink1Description: Manufacturer Link; ComponentLink1URL: http://sg.renesas.com/fmwk.jsp?cnt=diode_landing.jsp&fp=/products/discrete/diodes/; ComponentLink2Description: Datasheet; ComponentLink2URL: http://documentation.renesas.com/eng/products/diode/rej03g0185_hzs_n.pdf; ComponentLink3Description: Packaging Specification; ComponentLink3URL: http://sg.renesas.com/media/products/common_info/package/pdf/diode/code/grzz0002zc_a.pdf
footprint GRZZ0002ZC-A (Diode, Axial; Body 2.4 x 2.2 mm (LxDia. max), Lead Dia. 0.4 mm (nom))
signal-integrity model HZS33NB4
pins: 1 K, 2 A

## HZS36-1
designator D?
Silicon Epitaxial Planar Zener Diode for Stabilized Power Supply; Published: 12-Feb-2010; DatasheetVersion: Rev.5.00, Oct-2007; PackageVersion: Jul-2006; PackageReference: GRZZ0002ZC-A; Publisher: Altium Limited; PackageDescription: Diode, Axial; Body 2.4 x 2.0 mm (LxDia.), Lead Dia. 0.4 mm (nom); ComponentLink1Description: Manufacturer Link; ComponentLink1URL: http://sg.renesas.com/fmwk.jsp?cnt=diode_landing.jsp&fp=/products/discrete/diodes/; ComponentLink2Description: Datasheet; ComponentLink2URL: http://documentation.renesas.com/eng/products/diode/rej03g0184_hzs.pdf; ComponentLink3Description: Packaging Specification; ComponentLink3URL: http://sg.renesas.com/media/products/common_info/package/pdf/diode/code/grzz0002zc_a.pdf
footprint GRZZ0002ZC-A (Diode, Axial; Body 2.4 x 2.2 mm (LxDia. max), Lead Dia. 0.4 mm (nom))
signal-integrity model HZS36-1
pins: 1 K, 2 A

## HZS36-1L
designator D?
Silicon Epitaxial Planar Zener Diode for Low Noise Application; Published: 12-Feb-2010; DatasheetVersion: Rev.3.00, Nov-2007; PackageVersion: Jul-2006; PackageReference: GRZZ0002ZC-A; Publisher: Altium Limited; PackageDescription: Diode, Axial; Body 2.4 x 2.0 mm (LxDia.), Lead Dia. 0.4 mm (nom); ComponentLink1Description: Manufacturer Link; ComponentLink1URL: http://sg.renesas.com/fmwk.jsp?cnt=diode_landing.jsp&fp=/products/discrete/diodes/; ComponentLink2Description: Datasheet; ComponentLink2URL: http://documentation.renesas.com/eng/products/diode/rej03g0166_hzs_l.pdf; ComponentLink3Description: Packaging Specification; ComponentLink3URL: http://sg.renesas.com/media/products/common_info/package/pdf/diode/code/grzz0002zc_a.pdf
footprint GRZZ0002ZC-A (Diode, Axial; Body 2.4 x 2.2 mm (LxDia. max), Lead Dia. 0.4 mm (nom))
signal-integrity model HZS36-1L
pins: 1 K, 2 A

## HZS36-2
designator D?
Silicon Epitaxial Planar Zener Diode for Stabilized Power Supply; Published: 12-Feb-2010; DatasheetVersion: Rev.5.00, Oct-2007; PackageVersion: Jul-2006; PackageReference: GRZZ0002ZC-A; Publisher: Altium Limited; PackageDescription: Diode, Axial; Body 2.4 x 2.0 mm (LxDia.), Lead Dia. 0.4 mm (nom); ComponentLink1Description: Manufacturer Link; ComponentLink1URL: http://sg.renesas.com/fmwk.jsp?cnt=diode_landing.jsp&fp=/products/discrete/diodes/; ComponentLink2Description: Datasheet; ComponentLink2URL: http://documentation.renesas.com/eng/products/diode/rej03g0184_hzs.pdf; ComponentLink3Description: Packaging Specification; ComponentLink3URL: http://sg.renesas.com/media/products/common_info/package/pdf/diode/code/grzz0002zc_a.pdf
footprint GRZZ0002ZC-A (Diode, Axial; Body 2.4 x 2.2 mm (LxDia. max), Lead Dia. 0.4 mm (nom))
signal-integrity model HZS36-2
pins: 1 K, 2 A

## HZS36-2L
designator D?
Silicon Epitaxial Planar Zener Diode for Low Noise Application; Published: 12-Feb-2010; DatasheetVersion: Rev.3.00, Nov-2007; PackageVersion: Jul-2006; PackageReference: GRZZ0002ZC-A; Publisher: Altium Limited; PackageDescription: Diode, Axial; Body 2.4 x 2.0 mm (LxDia.), Lead Dia. 0.4 mm (nom); ComponentLink1Description: Manufacturer Link; ComponentLink1URL: http://sg.renesas.com/fmwk.jsp?cnt=diode_landing.jsp&fp=/products/discrete/diodes/; ComponentLink2Description: Datasheet; ComponentLink2URL: http://documentation.renesas.com/eng/products/diode/rej03g0166_hzs_l.pdf; ComponentLink3Description: Packaging Specification; ComponentLink3URL: http://sg.renesas.com/media/products/common_info/package/pdf/diode/code/grzz0002zc_a.pdf
footprint GRZZ0002ZC-A (Diode, Axial; Body 2.4 x 2.2 mm (LxDia. max), Lead Dia. 0.4 mm (nom))
signal-integrity model HZS36-2L
pins: 1 K, 2 A

## HZS36-3
designator D?
Silicon Epitaxial Planar Zener Diode for Stabilized Power Supply; Published: 12-Feb-2010; DatasheetVersion: Rev.5.00, Oct-2007; PackageVersion: Jul-2006; PackageReference: GRZZ0002ZC-A; Publisher: Altium Limited; PackageDescription: Diode, Axial; Body 2.4 x 2.0 mm (LxDia.), Lead Dia. 0.4 mm (nom); ComponentLink1Description: Manufacturer Link; ComponentLink1URL: http://sg.renesas.com/fmwk.jsp?cnt=diode_landing.jsp&fp=/products/discrete/diodes/; ComponentLink2Description: Datasheet; ComponentLink2URL: http://documentation.renesas.com/eng/products/diode/rej03g0184_hzs.pdf; ComponentLink3Description: Packaging Specification; ComponentLink3URL: http://sg.renesas.com/media/products/common_info/package/pdf/diode/code/grzz0002zc_a.pdf
footprint GRZZ0002ZC-A (Diode, Axial; Body 2.4 x 2.2 mm (LxDia. max), Lead Dia. 0.4 mm (nom))
signal-integrity model HZS36-3
pins: 1 K, 2 A

## HZS36-3L
designator D?
Silicon Epitaxial Planar Zener Diode for Low Noise Application; Published: 12-Feb-2010; DatasheetVersion: Rev.3.00, Nov-2007; PackageVersion: Jul-2006; PackageReference: GRZZ0002ZC-A; Publisher: Altium Limited; PackageDescription: Diode, Axial; Body 2.4 x 2.0 mm (LxDia.), Lead Dia. 0.4 mm (nom); ComponentLink1Description: Manufacturer Link; ComponentLink1URL: http://sg.renesas.com/fmwk.jsp?cnt=diode_landing.jsp&fp=/products/discrete/diodes/; ComponentLink2Description: Datasheet; ComponentLink2URL: http://documentation.renesas.com/eng/products/diode/rej03g0166_hzs_l.pdf; ComponentLink3Description: Packaging Specification; ComponentLink3URL: http://sg.renesas.com/media/products/common_info/package/pdf/diode/code/grzz0002zc_a.pdf
footprint GRZZ0002ZC-A (Diode, Axial; Body 2.4 x 2.2 mm (LxDia. max), Lead Dia. 0.4 mm (nom))
signal-integrity model HZS36-3L
pins: 1 K, 2 A

## HZS36NB1
designator D?
Silicon Epitaxial Planar Zener Diodes for Stabilized Power Supply; Published: 12-Feb-2010; DatasheetVersion: Rev.3.00, Nov-2007; PackageVersion: Jul-2006; PackageReference: GRZZ0002ZC-A; Publisher: Altium Limited; PackageDescription: Diode, Axial; Body 2.4 x 2.0 mm (LxDia.), Lead Dia. 0.4 mm (nom); ComponentLink1Description: Manufacturer Link; ComponentLink1URL: http://sg.renesas.com/fmwk.jsp?cnt=diode_landing.jsp&fp=/products/discrete/diodes/; ComponentLink2Description: Datasheet; ComponentLink2URL: http://documentation.renesas.com/eng/products/diode/rej03g0185_hzs_n.pdf; ComponentLink3Description: Packaging Specification; ComponentLink3URL: http://sg.renesas.com/media/products/common_info/package/pdf/diode/code/grzz0002zc_a.pdf
footprint GRZZ0002ZC-A (Diode, Axial; Body 2.4 x 2.2 mm (LxDia. max), Lead Dia. 0.4 mm (nom))
signal-integrity model HZS36NB1
pins: 1 K, 2 A

## HZS36NB2
designator D?
Silicon Epitaxial Planar Zener Diodes for Stabilized Power Supply; Published: 12-Feb-2010; DatasheetVersion: Rev.3.00, Nov-2007; PackageVersion: Jul-2006; PackageReference: GRZZ0002ZC-A; Publisher: Altium Limited; PackageDescription: Diode, Axial; Body 2.4 x 2.0 mm (LxDia.), Lead Dia. 0.4 mm (nom); ComponentLink1Description: Manufacturer Link; ComponentLink1URL: http://sg.renesas.com/fmwk.jsp?cnt=diode_landing.jsp&fp=/products/discrete/diodes/; ComponentLink2Description: Datasheet; ComponentLink2URL: http://documentation.renesas.com/eng/products/diode/rej03g0185_hzs_n.pdf; ComponentLink3Description: Packaging Specification; ComponentLink3URL: http://sg.renesas.com/media/products/common_info/package/pdf/diode/code/grzz0002zc_a.pdf
footprint GRZZ0002ZC-A (Diode, Axial; Body 2.4 x 2.2 mm (LxDia. max), Lead Dia. 0.4 mm (nom))
signal-integrity model HZS36NB2
pins: 1 K, 2 A

## HZS36NB3
designator D?
Silicon Epitaxial Planar Zener Diodes for Stabilized Power Supply; Published: 12-Feb-2010; DatasheetVersion: Rev.3.00, Nov-2007; PackageVersion: Jul-2006; PackageReference: GRZZ0002ZC-A; Publisher: Altium Limited; PackageDescription: Diode, Axial; Body 2.4 x 2.0 mm (LxDia.), Lead Dia. 0.4 mm (nom); ComponentLink1Description: Manufacturer Link; ComponentLink1URL: http://sg.renesas.com/fmwk.jsp?cnt=diode_landing.jsp&fp=/products/discrete/diodes/; ComponentLink2Description: Datasheet; ComponentLink2URL: http://documentation.renesas.com/eng/products/diode/rej03g0185_hzs_n.pdf; ComponentLink3Description: Packaging Specification; ComponentLink3URL: http://sg.renesas.com/media/products/common_info/package/pdf/diode/code/grzz0002zc_a.pdf
footprint GRZZ0002ZC-A (Diode, Axial; Body 2.4 x 2.2 mm (LxDia. max), Lead Dia. 0.4 mm (nom))
signal-integrity model HZS36NB3
pins: 1 K, 2 A

## HZS36NB4
designator D?
Silicon Epitaxial Planar Zener Diodes for Stabilized Power Supply; Published: 12-Feb-2010; DatasheetVersion: Rev.3.00, Nov-2007; PackageVersion: Jul-2006; PackageReference: GRZZ0002ZC-A; Publisher: Altium Limited; PackageDescription: Diode, Axial; Body 2.4 x 2.0 mm (LxDia.), Lead Dia. 0.4 mm (nom); ComponentLink1Description: Manufacturer Link; ComponentLink1URL: http://sg.renesas.com/fmwk.jsp?cnt=diode_landing.jsp&fp=/products/discrete/diodes/; ComponentLink2Description: Datasheet; ComponentLink2URL: http://documentation.renesas.com/eng/products/diode/rej03g0185_hzs_n.pdf; ComponentLink3Description: Packaging Specification; ComponentLink3URL: http://sg.renesas.com/media/products/common_info/package/pdf/diode/code/grzz0002zc_a.pdf
footprint GRZZ0002ZC-A (Diode, Axial; Body 2.4 x 2.2 mm (LxDia. max), Lead Dia. 0.4 mm (nom))
signal-integrity model HZS36NB4
pins: 1 K, 2 A

## HZS39NB1
designator D?
Silicon Epitaxial Planar Zener Diodes for Stabilized Power Supply; Published: 12-Feb-2010; DatasheetVersion: Rev.3.00, Nov-2007; PackageVersion: Jul-2006; PackageReference: GRZZ0002ZC-A; Publisher: Altium Limited; PackageDescription: Diode, Axial; Body 2.4 x 2.0 mm (LxDia.), Lead Dia. 0.4 mm (nom); ComponentLink1Description: Manufacturer Link; ComponentLink1URL: http://sg.renesas.com/fmwk.jsp?cnt=diode_landing.jsp&fp=/products/discrete/diodes/; ComponentLink2Description: Datasheet; ComponentLink2URL: http://documentation.renesas.com/eng/products/diode/rej03g0185_hzs_n.pdf; ComponentLink3Description: Packaging Specification; ComponentLink3URL: http://sg.renesas.com/media/products/common_info/package/pdf/diode/code/grzz0002zc_a.pdf
footprint GRZZ0002ZC-A (Diode, Axial; Body 2.4 x 2.2 mm (LxDia. max), Lead Dia. 0.4 mm (nom))
signal-integrity model HZS39NB1
pins: 1 K, 2 A

## HZS39NB2
designator D?
Silicon Epitaxial Planar Zener Diodes for Stabilized Power Supply; Published: 12-Feb-2010; DatasheetVersion: Rev.3.00, Nov-2007; PackageVersion: Jul-2006; PackageReference: GRZZ0002ZC-A; Publisher: Altium Limited; PackageDescription: Diode, Axial; Body 2.4 x 2.0 mm (LxDia.), Lead Dia. 0.4 mm (nom); ComponentLink1Description: Manufacturer Link; ComponentLink1URL: http://sg.renesas.com/fmwk.jsp?cnt=diode_landing.jsp&fp=/products/discrete/diodes/; ComponentLink2Description: Datasheet; ComponentLink2URL: http://documentation.renesas.com/eng/products/diode/rej03g0185_hzs_n.pdf; ComponentLink3Description: Packaging Specification; ComponentLink3URL: http://sg.renesas.com/media/products/common_info/package/pdf/diode/code/grzz0002zc_a.pdf
footprint GRZZ0002ZC-A (Diode, Axial; Body 2.4 x 2.2 mm (LxDia. max), Lead Dia. 0.4 mm (nom))
signal-integrity model HZS39NB2
pins: 1 K, 2 A

## HZS39NB3
designator D?
Silicon Epitaxial Planar Zener Diodes for Stabilized Power Supply; Published: 12-Feb-2010; DatasheetVersion: Rev.3.00, Nov-2007; PackageVersion: Jul-2006; PackageReference: GRZZ0002ZC-A; Publisher: Altium Limited; PackageDescription: Diode, Axial; Body 2.4 x 2.0 mm (LxDia.), Lead Dia. 0.4 mm (nom); ComponentLink1Description: Manufacturer Link; ComponentLink1URL: http://sg.renesas.com/fmwk.jsp?cnt=diode_landing.jsp&fp=/products/discrete/diodes/; ComponentLink2Description: Datasheet; ComponentLink2URL: http://documentation.renesas.com/eng/products/diode/rej03g0185_hzs_n.pdf; ComponentLink3Description: Packaging Specification; ComponentLink3URL: http://sg.renesas.com/media/products/common_info/package/pdf/diode/code/grzz0002zc_a.pdf
footprint GRZZ0002ZC-A (Diode, Axial; Body 2.4 x 2.2 mm (LxDia. max), Lead Dia. 0.4 mm (nom))
signal-integrity model HZS39NB3
pins: 1 K, 2 A

## HZS39NB4
designator D?
Silicon Epitaxial Planar Zener Diodes for Stabilized Power Supply; Published: 12-Feb-2010; DatasheetVersion: Rev.3.00, Nov-2007; PackageVersion: Jul-2006; PackageReference: GRZZ0002ZC-A; Publisher: Altium Limited; PackageDescription: Diode, Axial; Body 2.4 x 2.0 mm (LxDia.), Lead Dia. 0.4 mm (nom); ComponentLink1Description: Manufacturer Link; ComponentLink1URL: http://sg.renesas.com/fmwk.jsp?cnt=diode_landing.jsp&fp=/products/discrete/diodes/; ComponentLink2Description: Datasheet; ComponentLink2URL: http://documentation.renesas.com/eng/products/diode/rej03g0185_hzs_n.pdf; ComponentLink3Description: Packaging Specification; ComponentLink3URL: http://sg.renesas.com/media/products/common_info/package/pdf/diode/code/grzz0002zc_a.pdf
footprint GRZZ0002ZC-A (Diode, Axial; Body 2.4 x 2.2 mm (LxDia. max), Lead Dia. 0.4 mm (nom))
signal-integrity model HZS39NB4
pins: 1 K, 2 A

## HZU2.0B
designator D?
Silicon Epitaxial Planar Zener Diodes for Stabilizer; Published: 12-Feb-2010; DatasheetVersion: Rev.9.00, Jul-2006; PackageVersion: Sep-2005; PackageReference: PTSP0002ZA-A; Publisher: Altium Limited; PackageDescription: 2-Pin SC-76 Package, 1.7 x 1.3 mm Body; Code_JEITA: SC-76A; ComponentLink1Description: Manufacturer Link; ComponentLink1URL: http://sg.renesas.com/fmwk.jsp?cnt=diode_landing.jsp&fp=/products/discrete/diodes/; ComponentLink2Description: Datasheet; ComponentLink2URL: http://documentation.renesas.com/eng/products/diode/rej03g0625_hzu.pdf; ComponentLink3Description: Packaging Specification; ComponentLink3URL: http://sg.renesas.com/media/products/common_info/package/pdf/diode/code/ptsp0002za_a.pdf
footprint PTSP0002ZA-A (SC-76; 2 Leads; Body 1.7x1.3mm, Renesas Recommended)
signal-integrity model HZU2.0B
pins: 1 K, 2 A

## HZU2.2B
designator D?
Silicon Epitaxial Planar Zener Diodes for Stabilizer; Published: 12-Feb-2010; DatasheetVersion: Rev.9.00, Jul-2006; PackageVersion: Sep-2005; PackageReference: PTSP0002ZA-A; Publisher: Altium Limited; PackageDescription: 2-Pin SC-76 Package, 1.7 x 1.3 mm Body; Code_JEITA: SC-76A; ComponentLink1Description: Manufacturer Link; ComponentLink1URL: http://sg.renesas.com/fmwk.jsp?cnt=diode_landing.jsp&fp=/products/discrete/diodes/; ComponentLink2Description: Datasheet; ComponentLink2URL: http://documentation.renesas.com/eng/products/diode/rej03g0625_hzu.pdf; ComponentLink3Description: Packaging Specification; ComponentLink3URL: http://sg.renesas.com/media/products/common_info/package/pdf/diode/code/ptsp0002za_a.pdf
footprint PTSP0002ZA-A (SC-76; 2 Leads; Body 1.7x1.3mm, Renesas Recommended)
signal-integrity model HZU2.2B
pins: 1 K, 2 A